# Altium schematic symbol library SnapEDAsch.SchLib: 1 symbol
Pins are listed as number, name and electrical type; pins without a type are passive.

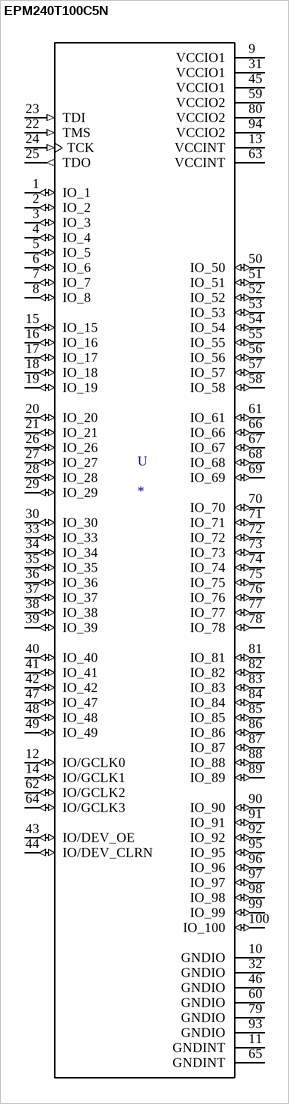
[diagram p0: symbol EPM240T100C5N]

## EPM240T100C5N
designator U
IC CPLD 192MC 4.7NS 100TQFP; MF: Intel; MP: EPM240T100C5N; Availability: Unavailable; Value: *; Package: TQFP-100 Altera; SnapEDA_Link: https://www.snapeda.com/parts/EPM240T100C5N/Intel/view-part/38204/?ref=snap; Price: None
footprint QFP50P1600X1600X120-100N
pins: 1 IO_1 (io), 2 IO_2 (io), 3 IO_3 (io), 4 IO_4 (io), 5 IO_5 (io), 6 IO_6 (io), 7 IO_7 (io), 8 IO_8 (io), 9 VCCIO1 (power), 10 GNDIO (power), 11 GNDINT (power), 12 IO/GCLK0 (io), 13 VCCINT (power), 14 IO/GCLK1 (io), 15 IO_15 (io), 16 IO_16 (io), 17 IO_17 (io), 18 IO_18 (io), 19 IO_19 (io), 20 IO_20 (io), 21 IO_21 (io), 22 TMS (in), 23 TDI (in), 24 TCK (in), 25 TDO (out), 26 IO_26 (io), 27 IO_27 (io), 28 IO_28 (io), 29 IO_29 (io), 30 IO_30 (io), 31 VCCIO1 (power), 32 GNDIO (power), 33 IO_33 (io), 34 IO_34 (io), 35 IO_35 (io), 36 IO_36 (io), 37 IO_37 (io), 38 IO_38 (io), 39 IO_39 (io), 40 IO_40 (io), 41 IO_41 (io), 42 IO_42 (io), 43 IO/DEV_OE (io), 44 IO/DEV_CLRN (io), 45 VCCIO1 (power), 46 GNDIO (power), 47 IO_47 (io), 48 IO_48 (io), 49 IO_49 (io), 50 IO_50 (io), 51 IO_51 (io), 52 IO_52 (io), 53 IO_53 (io), 54 IO_54 (io), 55 IO_55 (io), 56 IO_56 (io), 57 IO_57 (io), 58 IO_58 (io), 59 VCCIO2 (power), 60 GNDIO (power), 61 IO_61 (io), 62 IO/GCLK2 (io), 63 VCCINT (power), 64 IO/GCLK3 (io), 65 GNDINT (power), 66 IO_66 (io), 67 IO_67 (io), 68 IO_68 (io), 69 IO_69 (io), 70 IO_70 (io), 71 IO_71 (io), 72 IO_72 (io), 73 IO_73 (io), 74 IO_74 (io), 75 IO_75 (io), 76 IO_76 (io), 77 IO_77 (io), 78 IO_78 (io), 79 GNDIO (power), 80 VCCIO2 (power), 81 IO_81 (io), 82 IO_82 (io), 83 IO_83 (io), 84 IO_84 (io), 85 IO_85 (io), 86 IO_86 (io), 87 IO_87 (io), 88 IO_88 (io), 89 IO_89 (io), 90 IO_90 (io), 91 IO_91 (io), 92 IO_92 (io), 93 GNDIO (power), 94 VCCIO2 (power), 95 IO_95 (io), 96 IO_96 (io), 97 IO_97 (io), 98 IO_98 (io), 99 IO_99 (io), 100 IO_100 (io)